# Altium schematic symbol library Conn_Taoglas_RECE.20279.001E.01_eec.SchLib: 1 symbol
Pins are listed as number, name and electrical type; pins without a type are passive.

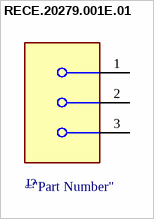
[diagram p0: symbol RECE.20279.001E.01]

## RECE.20279.001E.01
designator J?  (value not drawn)
pins: 1, 2 MNT 1, 3 MNT 2